# Altium footprint library Buck_converter.PcbLib: 14 footprints
Each footprint in its own frame and in the unit in brackets; x right, y up, seen from the top. Pads: shape width x height; smd on the part's side, far side on the other; paste and mask are expansions set on the pad; w line width, h text height; cw(c..) or ccw(c..) is an arc to the next point about the centre after c.
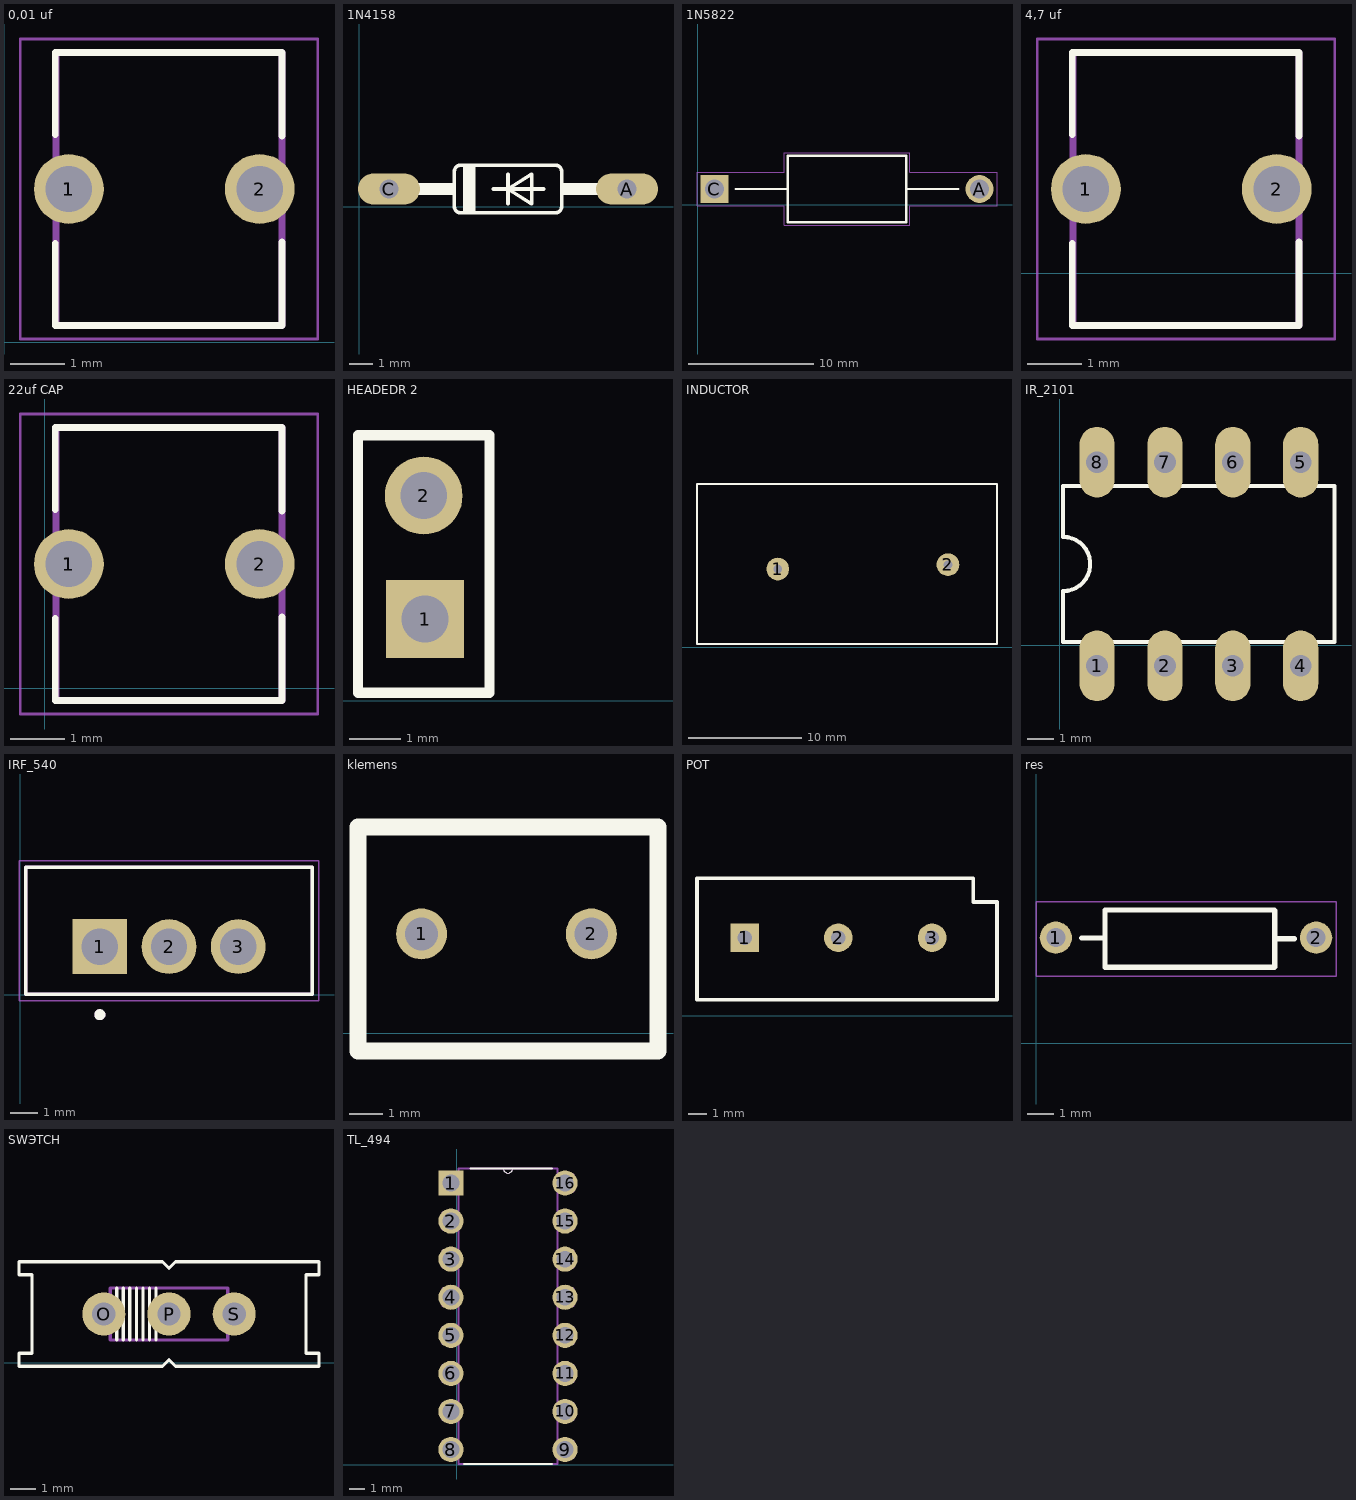
[diagram p0: the footprints below, top view; thin cyan lines are the x and y axes]

## 0,01 uf [mm]
pads (5):
  round 1.28 hole 0.85: 1(1.191,2.806) 1(1.191,2.806) 1(1.191,2.806) 1(1.191,2.806) 2(4.691,2.806)
Top Overlay:
  lines w0.127: 0.941,1.806 0.941,0.306 5.102,0.306 5.102,1.831 ; 0.941,3.806 0.941,5.306 5.102,5.306 5.102,3.781
Mechanical 13:
  lines w0.127: 0.952,0.306 0.952,5.306 5.102,5.306 5.102,0.306 0.952,0.306
Mechanical 15:
  lines w0.05: 0.301,0.056 0.301,5.556 5.752,5.556 5.752,0.056 0.301,0.056
3D body "r82ec2100aa50j.stp": height 6.6, standoff -5.5, extent -0.635,1.703 6.765,4.308

## 1N4158 [mil]
pads (2):
  oval 104x52 hole 32: A(450,30) C(50,30)
Top Overlay:
  region: 175,70 195,70 195,-10 175,-10
  region: 340,40 415,40 415,20 340,20
  region: 85,40 160,40 160,20 85,20
  lines w6: 225,30 250,30 ; 250,5 250,30 ; 250,55 250,30 ; 310,30 250,30 ; 250,30 290,5 290,55 250,30 ; 160,0 ccw(c170,0) 170,-10 330,-10 ccw(c330,0) 340,0 340,60 ccw(c330,60) 330,70 170,70 ccw(c170,60) 160,60 160,0
Mechanical 4:
  lines w10: 50,30 85,30 50,30 ; 415,30 450,30 415,30
3D body "CircuitWorks-DIODE0_4.STEP": height 100.5, standoff -100, extent 40,-20.5 470,80.5

## 1N5822 [mm]
pads (2):
  round 2.25 hole 1.5: A(22.538,1.27)
  rect 2.25x2.25 hole 1.5: C(1.338,1.27)
Top Overlay:
  lines w0.2: 3.048,1.27 7.138,1.27 ; 16.738,1.27 20.828,1.27 ; 7.188,-1.38 16.688,-1.38 16.688,3.92 7.188,3.92 7.188,-1.38
Mechanical 15:
  lines w0.05: -0.062,-0.08 -0.062,2.62 6.938,2.62 6.938,4.17 16.938,4.17 16.938,2.62 23.938,2.62 23.938,-0.08 16.938,-0.08 16.938,-1.63 6.938,-1.63 6.938,-0.08 -0.062,-0.08
3D body "1N5822.step": height 2.64, standoff -5.97, extent 2.448,-1.464 21.428,3.556

## 4,7 uf [mm]
pads (5):
  round 1.28 hole 0.85: 1(1.347,1.545) 1(1.347,1.545) 1(1.347,1.545) 1(1.347,1.545) 2(4.847,1.545)
Top Overlay:
  lines w0.127: 1.097,0.545 1.097,-0.955 5.258,-0.955 5.258,0.57 ; 1.097,2.545 1.097,4.045 5.258,4.045 5.258,2.52
Mechanical 13:
  lines w0.127: 1.108,-0.955 1.108,4.045 5.258,4.045 5.258,-0.955 1.108,-0.955
Mechanical 15:
  lines w0.05: 0.457,-1.205 0.457,4.295 5.908,4.295 5.908,-1.205 0.457,-1.205
3D body "User Library-UVR1E101MED-100uf 25V-1.step": height 11, standoff -2.5, extent -0.117,-1.683 6.183,4.617

## 22uf CAP [mm]
pads (5):
  round 1.28 hole 0.85: 1(0.439,2.278) 1(0.439,2.278) 1(0.439,2.278) 1(0.439,2.278) 2(3.939,2.278)
Top Overlay:
  lines w0.127: 0.189,1.278 0.189,-0.222 4.35,-0.222 4.35,1.303 ; 0.189,3.278 0.189,4.778 4.35,4.778 4.35,3.253
Mechanical 13:
  lines w0.127: 0.2,-0.222 4.35,-0.222 4.35,4.778 0.2,4.778 0.2,-0.222
Mechanical 15:
  lines w0.05: -0.451,-0.472 5,-0.472 5,5.028 -0.451,5.028 -0.451,-0.472
3D body "C22_D_3.5mm_P3mm.STEP": height 3.75, standoff -2, extent 0.5,1.157 4,3.2

## HEADEDR 2 [mm]
pads (2):
  rect 1.5x1.5 hole 0.9: 1(4.825,1.575)
  round 1.5 hole 0.9: 2(4.8,3.96)
Top Overlay:
  lines w0.2: 3.53,0.15 3.53,5.125 6.07,5.125 6.07,0.15 3.53,0.15
Mechanical 15:
  region: 9.325,3.725
3D body "header 2.stp": height 8.89, standoff -3.05, extent 3.555,0.225 6.095,5.305

## INDUCTOR [mm]
pads (2):
  round 2 hole 0.762: 1(20.011,6.878) 2(34.997,7.259)
Top Overlay:
  lines w0.2: 12.899,0.274 39.315,0.274 39.315,14.371 12.899,14.371 12.899,0.274
3D body "User Library-TP223 PFC inductor.step": height 42.84, standoff -24.02, extent -0.055,-1.874 61.932,15.376

## IR_2101 [mil]
pads (8):
  oval 52x104 hole 32: 1(55,-30) 2(155,-30) 3(255,-30) 4(355,-30) 5(355,270) 6(255,270) 7(155,270) 8(55,270)
Top Overlay:
  lines w6: 5,5 5,80 ccw(c5,120) 5,160 5,235 405,235 405,5 5,5
3D body "pdip8_p2-54x7-62_l10-16_w6-4.stp": height 169.69, standoff -146.06, extent 10,-43.86 410,265.99

## IRF_540 [mm]
pads (3):
  rect 2.01x2.01 hole 1.34: 1(2.921,1.778)
  round 2.01 hole 1.34: 2(5.461,1.778) 3(8.001,1.778)
Top Overlay:
  circle w0.2: c2.921,-0.722 r0.1
  lines w0.127: 0.201,0.035 10.721,0.035 10.721,4.685 0.201,4.685 0.201,0.035
Mechanical 13:
  circle w0.2: c2.921,-0.722 r0.1
  lines w0.127: 0.201,0.035 0.201,4.685 10.721,4.685 10.721,0.035 0.201,0.035
Mechanical 15:
  lines w0.05: -0.049,-0.215 -0.049,4.935 10.971,4.935 10.971,-0.215 -0.049,-0.215
3D body "Mosfet IRF540.step": height 15.22, standoff -13.36, extent 0.311,0.889 10.611,4.189

## klemens [mil]
pads (2):
  round 60 hole 39.37: 1(123.9,117.05) 2(323.9,117.05)
Top Overlay:
  lines w19.68: 49.09,-20.75 49.09,243.03 402.44,243.03 402.44,-20.75 49.09,-20.75
3D body "tb5p-2p_p5_l10_w7-6_h10.stp": height 393.7, standoff -161.42, extent 5.8,-4.01 423.12,295.2

## POT [mil]
pads (3):
  rect 60x60 hole 30: 1(201.85,163.9)
  round 60 hole 30: 2(398.7,163.9) 3(595.55,163.9)
Top Overlay:
  lines w7.87: 101.85,33.9 731.85,33.9 731.85,238.9 681.85,238.9 681.85,288.9 101.85,288.9 101.85,33.9
3D body "P160NK.STEP": height 807.09, standoff -177.17, extent 77.2,-66.1 746.5,898.46

## res [mil]
pads (3):
  round 48.74 hole 28.74: 1(30,160) 1(30,160) 2(423.7,160)
Top Overlay:
  lines w7.87: 68.9,159.45 104.33,159.45 ; 361.22,158.46 390.75,158.46 ; 104.33,159.45 104.33,201.77 360.24,201.77 361.22,200.79 361.22,116.14 360.24,115.16 104.33,115.16 104.33,159.45
Mechanical 15:
  lines w1.97: 0,101.38 453.74,101.38 453.74,214.57 0,214.57 0,101.38
3D body "R1K.STEP": height 83.07, standoff -157.48, extent 14.56,118.11 434.25,205.51

## SWЭTCH [mil]
pads (3):
  round 66 hole 35.43: O(291.06,74.65) P(391.06,74.65) S(491.06,74.65)
Top Overlay:
  lines w5: 311.06,34.65 311.06,114.65 ; 321.06,34.65 321.06,114.65 ; 331.06,34.65 331.06,114.65 ; 341.06,34.65 341.06,114.65 ; 351.06,34.65 351.06,114.65 ; 361.06,34.65 361.06,114.65 ; 371.06,34.65 371.06,114.65 ; 161.06,-5.35 161.06,14.65 181.06,14.65 181.06,134.65 161.06,134.65 161.06,154.65 381.06,154.65 391.06,144.65 401.06,154.65 621.06,154.65 621.06,134.65 601.06,134.65 601.06,14.65 621.06,14.65 621.06,-5.35 401.06,-5.35 391.06,4.65 381.06,-5.35 161.06,-5.35
Mechanical 13:
  lines w5: 301.06,34.65 301.06,114.65 481.06,114.65 481.06,34.65 301.06,34.65
3D body "SlideSwitch.step": height 170.96, standoff -289.79, extent 13.34,-25.67 781.06,184.96

## TL_494 [mil]
pads (16):
  rect 66x66 hole 44: 1(-15,740)
  round 66 hole 44: 2(-15,640) 3(-15,540) 4(-15,440) 5(-15,340) 6(-15,240) 7(-15,140) 8(-15,40) 9(285,40) 10(285,140) 11(285,240) 12(285,340) 13(285,440) 14(285,540) 15(285,640) 16(285,740)
Top Overlay:
  lines w0: 123,778 ccw(c135,778) 147,778
  lines w6: 20,2 250,2 ; 37,778 123,778 147,778 250,778
Mechanical 13:
  lines w0: 123,778 ccw(c135,778) 147,778
  lines w6: -37,18 -37,62 5,62 5,18 -37,18 ; -37,118 -37,162 5,162 5,118 -37,118 ; -37,218 -37,262 5,262 5,218 -37,218 ; -37,318 -37,362 5,362 5,318 -37,318 ; -37,418 -37,462 5,462 5,418 -37,418 ; -37,518 -37,562 5,562 5,518 -37,518 ; -37,618 -37,662 5,662 5,618 -37,618 ; -37,718 -37,762 5,762 5,718 -37,718 ; 5,2 265,2 265,778 147,778 123,778 5,778 5,2 ; 265,18 265,62 307,62 307,18 265,18 ; 265,118 265,162 307,162 307,118 265,118 ; 265,218 265,262 307,262 307,218 265,218 ; 265,318 265,362 307,362 307,318 265,318 ; 265,418 265,462 307,462 307,418 265,418 ; 265,518 265,562 307,562 307,518 265,518 ; 265,618 265,662 307,662 307,618 265,618 ; 265,718 265,762 307,762 307,718 265,718
3D body "CircuitWorks-DIP16.step": height 165, standoff -101, extent -25,-40 285,810